# EAGLE library part S29VS256RABBHW000 (library circuit_tree)
IC
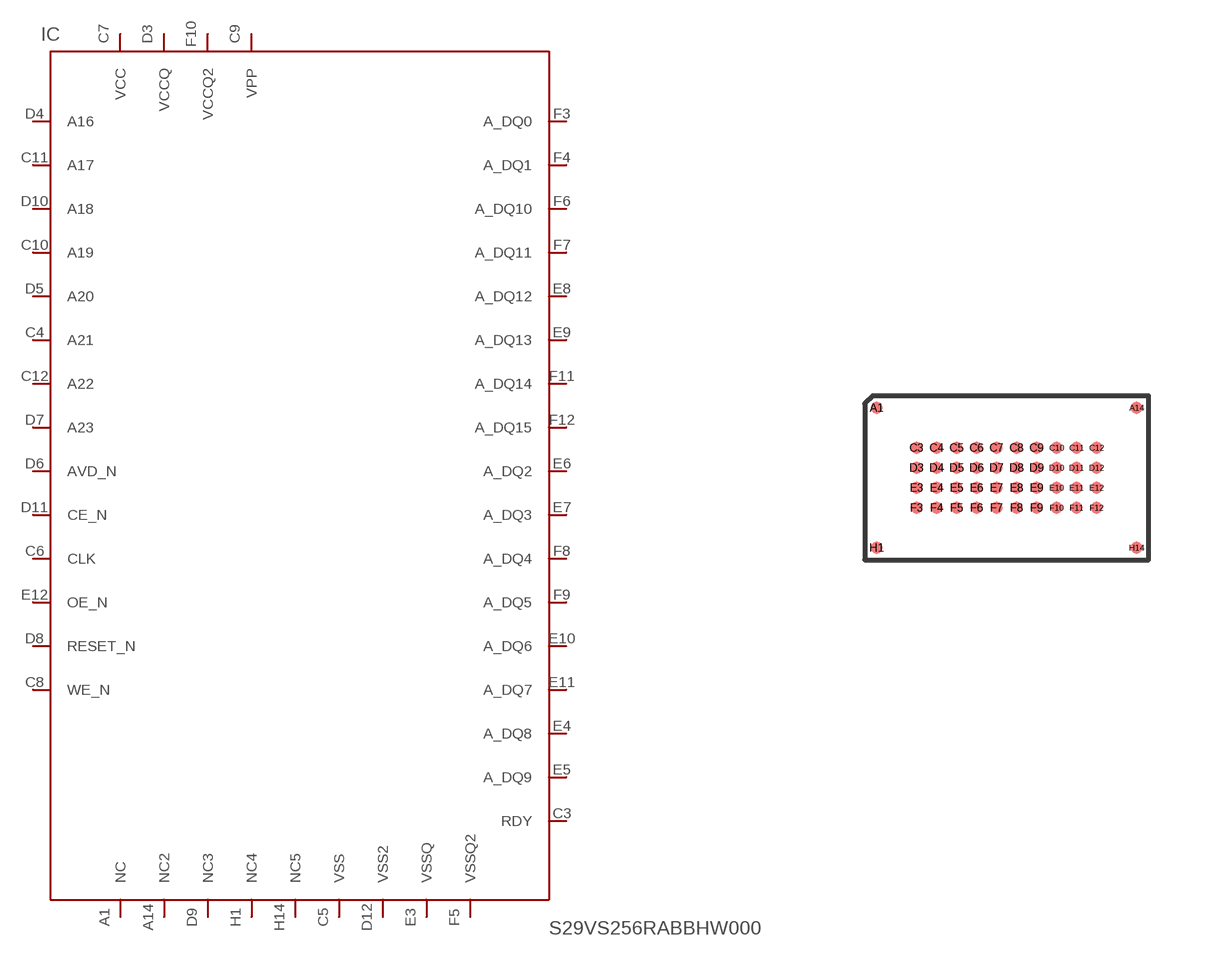
[diagram p12: symbol with the pads of S29VS256RABBHW000; footprint S29VS256RABBHW000]

Designator prefix IC

## S29VS256RABBHW000  [S29VS256RABBHW000]
A1  NC  pas
A14  NC2  pas
C3  RDY  pas
C4  A21  pas
C5  VSS  pas
C6  CLK  pas
C7  VCC  pas
C8  WE_N  pas
C9  VPP  pas
C10  A19  pas
C11  A17  pas
C12  A22  pas
D3  VCCQ  pas
D4  A16  pas
D5  A20  pas
D6  AVD_N  pas
D7  A23  pas
D8  RESET_N  pas
D9  NC3  pas
D10  A18  pas
D11  CE_N  pas
D12  VSS2  pas
E3  VSSQ  pas
E4  A_DQ8  pas
E5  A_DQ9  pas
E6  A_DQ2  pas
E7  A_DQ3  pas
E8  A_DQ12  pas
E9  A_DQ13  pas
E10  A_DQ6  pas
E11  A_DQ7  pas
E12  OE_N  pas
F3  A_DQ0  pas
F4  A_DQ1  pas
F5  VSSQ2  pas
F6  A_DQ10  pas
F7  A_DQ11  pas
F8  A_DQ4  pas
F9  A_DQ5  pas
F10  VCCQ2  pas
F11  A_DQ14  pas
F12  A_DQ15  pas
H1  NC4  pas
H14  NC5  pas

## Footprint S29VS256RABBHW000 (pad centres in mm)
smd 0.3 x 0.3: A1 -6,3; A14 0.5,3; C3 -5,2; C4 -4.5,2; C5 -4,2; C6 -3.5,2; C7 -3,2; C8 -2.5,2; C9 -2,2; C10 -1.5,2; C11 -1,2; C12 -0.5,2; D3 -5,1.5; D4 -4.5,1.5; D5 -4,1.5; D6 -3.5,1.5; D7 -3,1.5; D8 -2.5,1.5; D9 -2,1.5; D10 -1.5,1.5; D11 -1,1.5; D12 -0.5,1.5; E3 -5,1; E4 -4.5,1; E5 -4,1; E6 -3.5,1; E7 -3,1; E8 -2.5,1; E9 -2,1; E10 -1.5,1; E11 -1,1; E12 -0.5,1; F3 -5,0.5; F4 -4.5,0.5; F5 -4,0.5; F6 -3.5,0.5; F7 -3,0.5; F8 -2.5,0.5; F9 -2,0.5; F10 -1.5,0.5; F11 -1,0.5; F12 -0.5,0.5; H1 -6,-0.5; H14 0.5,-0.5